# EAGLE library part LTC3546 (library PowerProducts)
LT-Spice library generated with : ltspice.ulp from: D:/Program Files (x86)/LTC/LTspiceIV/lib/sym/PowerProducts/LTC3547*.asy at 07.10.2012 18:17:48
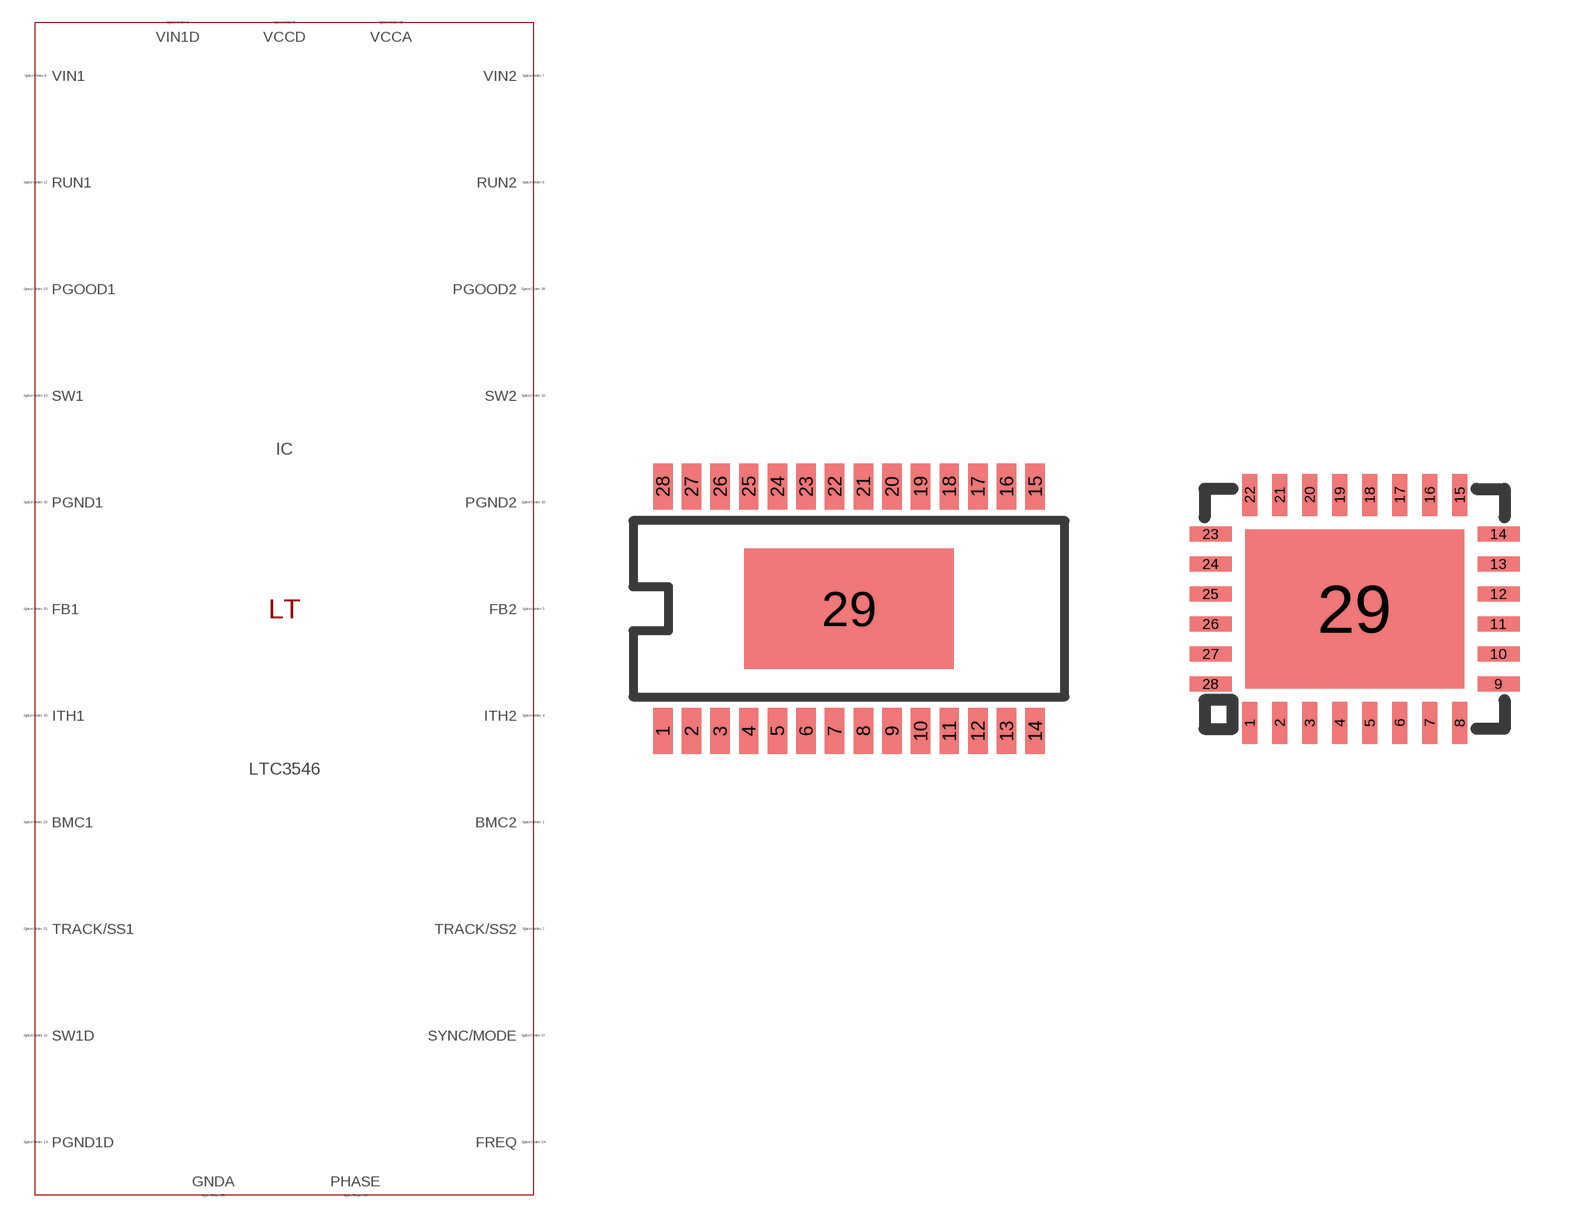
[diagram p241: symbol with the pads of TSSOP28EB(FE); footprints TSSOP28EB(FE), QFN28(UFD)]

Designator prefix IC

## LTC3546 (SPICEMODEL: LTC3546.sub; SPICEPREFIX: X; VALUE2: LTC3546)  [TSSOP28EB(FE)]
1  VCCA  pas
2  SYNC/MODE  pas
3  PGOOD2  pas
4  BMC2  pas
5  TRACK/SS2  pas
6  FB2  pas
7  ITH2  pas
8  VCCD  pas
9  RUN2  pas
10  VIN2  pas
11  VIN1  pas
12  VIN1D  pas
13  SW2  pas
14  SW2  pas
15  SW1D  pas
16  SW1  pas
17  PGND1D  pas
18  PGND1  pas
19  PGND2  pas
20  RUN1  pas
21  PHASE  pas
22  ITH1  pas
23  FB1  pas
24  TRACK/SS1  pas
25  BMC1  pas
26  PGOOD1  pas
27  FREQ  pas
28  GNDA  pas
29  PGND2  pas

## LTC3546UFD (SPICEMODEL: LTC3546.sub; SPICEPREFIX: X; VALUE2: LTC3546)  [QFN28(UFD)]
1  BMC2  pas
2  TRACK/SS2  pas
3  FB2  pas
4  ITH2  pas
5  VCCD  pas
6  RUN2  pas
7  VIN2  pas
8  VIN1  pas
9  VIN1D  pas
10  SW2  pas
11  SW2  pas
12  SW1D  pas
13  SW1  pas
14  PGND1D  pas
15  PGND1  pas
16  PGND2  pas
17  RUN1  pas
18  PHASE  pas
19  ITH1  pas
20  FB1  pas
21  TRACK/SS1  pas
22  BMC1  pas
23  PGOOD1  pas
24  FREQ  pas
25  GNDA  pas
26  VCCA  pas
27  SYNC/MODE  pas
28  PGOOD2  pas
29  PGND2  pas

## Footprint TSSOP28EB(FE) (pad centres in mm)
Package generated from: TSSOP28EB(FE).asc (!PADS-POWERPCB-V5.0-BASIC! DESIGN DATABASE ASCII FILE 1.0) with :import-pads-powerpcb-v5.ulp Version 1.0.1 at 04.10.2012 14:11:40
smd 0.66 x 1.575: 1 -6.338,-4.162; 2 -5.362,-4.162; 3 -4.388,-4.162; 4 -3.413,-4.162; 5 -2.438,-4.162; 6 -1.462,-4.162; 7 -0.487,-4.162; 8 0.487,-4.162; 9 1.462,-4.162; 10 2.438,-4.162; 11 3.413,-4.162; 12 4.388,-4.162; 13 5.362,-4.162; 14 6.338,-4.162; 15 6.338,4.162; 16 5.362,4.162; 17 4.388,4.162; 18 3.413,4.162; 19 2.438,4.162; 20 1.462,4.162; 21 0.487,4.162; 22 -0.487,4.162; 23 -1.462,4.162; 24 -2.438,4.162; 25 -3.413,4.162; 26 -4.388,4.162; 27 -5.362,4.162; 28 -6.338,4.162
smd 7.125 x 4.11: 29 0,0

## Footprint QFN28(UFD) (pad centres in mm)
Package generated from: QFN28(UFD).asc (!PADS-POWERPCB-V5.0-BASIC! DESIGN DATABASE ASCII FILE 1.0) with :import-pads-powerpcb-v5.ulp Version 1.0.1 at 04.10.2012 14:11:25
smd 0.375 x 1.05: 1 -2.625,-2.85; 2 -1.875,-2.85; 3 -1.125,-2.85; 4 -0.375,-2.85; 5 0.375,-2.85; 6 1.125,-2.85; 7 1.875,-2.85; 8 2.625,-2.85; 15 2.625,2.85; 16 1.875,2.85; 17 1.125,2.85; 18 0.375,2.85; 19 -0.375,2.85; 20 -1.125,2.85; 21 -1.875,2.85; 22 -2.625,2.85
smd 1.05 x 0.375: 9 3.6,-1.875; 10 3.6,-1.125; 11 3.6,-0.375; 12 3.6,0.375; 13 3.6,1.125; 14 3.6,1.875; 23 -3.6,1.875; 24 -3.6,1.125; 25 -3.6,0.375; 26 -3.6,-0.375; 27 -3.6,-1.125; 28 -3.6,-1.875
smd 5.475 x 3.975: 29 0,0